# Altium footprint library SBTC-2-10L&plus_.PcbLib: 1 footprints
Each footprint in its own frame and in the unit in brackets; x right, y up, seen from the top. Pads: shape width x height; smd on the part's side, far side on the other; paste and mask are expansions set on the pad; w line width, h text height; cw(c..) or ccw(c..) is an arc to the next point about the centre after c.
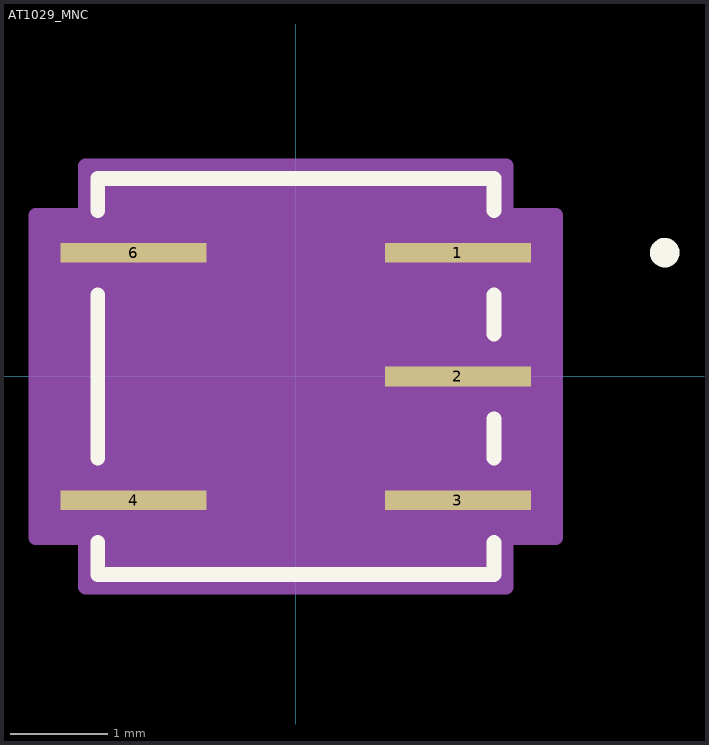
[diagram p0: the footprint, top view; thin cyan lines are the x and y axes]

## AT1029_MNC [mil]
pads (5):
  rect 59x8 smd paste+0 mask+0: 1(65.5,50) 2(65.5,0) 3(65.5,-50) 4(-65.5,-50) 6(-65.5,50)
Top Overlay:
  circle w6: c149,50 r3
  lines w6: -80,-67.1 -80,-80 80,-80 80,-67.1 ; -80,-32.9 -80,32.9 ; -80,67.1 -80,80 80,80 80,67.1 ; 80,-32.9 80,-17.1 ; 80,17.1 80,32.9
Mechanical 13:
  circle w0: c36,50 r3
  lines w0: -12,75 ccw(c0,75) 12,75
  lines w1: -75,-75 75,-75 75,75 -75,75 -75,-75
Mechanical 15:
  region: 85,-85 -85,-85 -85,-65 -105,-65 -105,65 -85,65 -85,85 85,85 85,65 105,65 105,-65 85,-65
  lines w6: -105,-65 -85,-65 -85,-85 85,-85 85,-65 105,-65 105,65 85,65 85,85 -85,85 -85,65 -105,65 -105,-65